# EAGLE library part PSS-1X8 (library 1_Robo-Lib)
PSS - PIN HEADER
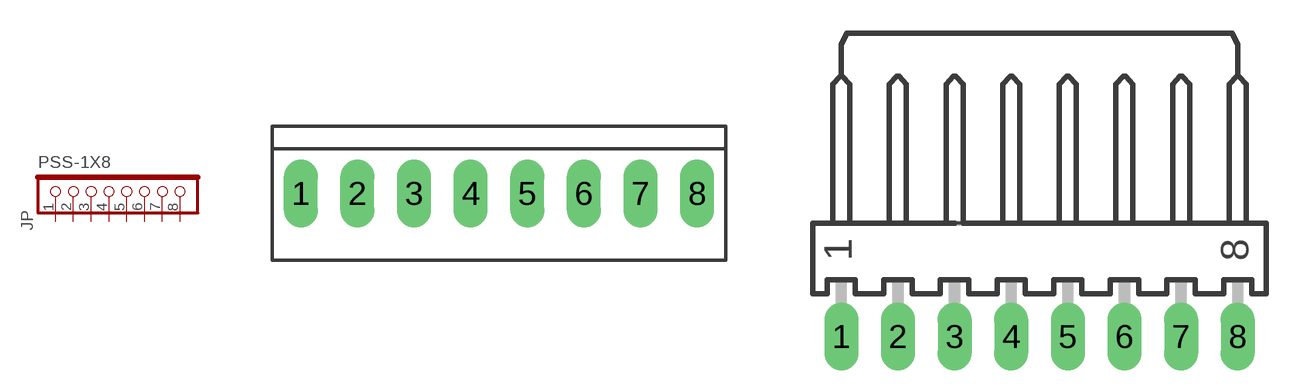
[diagram p0: symbol with the pads of PSS-08G; footprints PSS-08G, PSS-08W]

Designator prefix JP

## PSS-1X8G  [PSS-08G]
1  1  pas
2  2  pas
3  3  pas
4  4  pas
5  5  pas
6  6  pas
7  7  pas
8  8  pas

## PSS-1X8W  [PSS-08W]
Pads as for PSS-08G

## Footprint PSS-08G (pad centres in mm)
PIN HEADER
drill 1.016 long: 1 -8.89,0; 2 -6.35,0; 3 -3.81,0; 4 -1.27,0; 5 1.27,0; 6 3.81,0; 7 6.35,0; 8 8.89,0

## Footprint PSS-08W (pad centres in mm)
PIN HEADER
drill 1.016 long: 1 -8.89,0; 2 -6.35,0; 3 -3.81,0; 4 -1.27,0; 5 1.27,0; 6 3.81,0; 7 6.35,0; 8 8.89,0